# Altium schematic symbol library Molex  Microfit 2.0 1x2.SchLib: 1 symbol
Pins are listed as number, name and electrical type; pins without a type are passive.

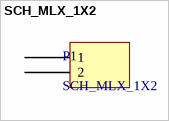
[diagram p0: symbol SCH_MLX_1X2]

## SCH_MLX_1X2
designator P1
footprint PCB_MLX_MICROFIT_1X2
pins: 1, 2